# Altium schematic symbol library OltestLib.SchLib: 174 symbols (part 3 of 3)
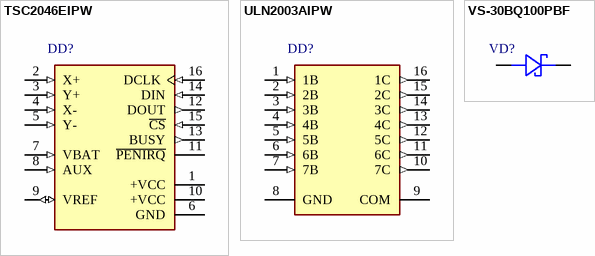
[diagram p10: symbols TSC2046EIPW to VS-30BQ100PBF]

## TSC2046EIPW
designator DD?
Touch Screen Controller with Serial Interface; Manufacturer: Texas Instruments; PartNumber: TSC2046EIPW
footprint PW0016A_M (SOP, 16-Leads, Body 5.1x4.5mm, Pitch 0.65mm, IPC Low Density)
pins: 1 +VCC (power) "Power Supply Input. The +VCC range for the AD7873 is from 2.2 V to 5.25 V. Both +VCC pins should be connected directly together.", 2 X+ (in) "X+ Position Input. ADC Input Channel 1.", 3 Y+ (in) "Y+ Position Input. ADC Input Channel 2.", 4 X- (in) "X- Position Input.", 5 Y- (in) "Y- Position Input. ADC Input Channel 3.", 6 GND (power) "Analog Ground. Ground reference point for all circuitry on the AD7873. All analog input signals and any external reference signals should be referred to this GND voltage.", 7 VBAT (in) "Battery Monitor Input. ADC Input Channel 4.", 8 AUX (in) "Auxiliary Input. ADC Input Channel 5.", 9 VREF (io) "Reference Output for the AD7873. Alternatively, an external reference can be applied to this input. The voltage range for the external reference is 1.0 V to +VCC. For specified performance, it is 2.5 V on the AD7873. The (See Datasheet)", 10 +VCC (power) "Power Supply Input. The +VCC range for the AD7873 is from 2.2 V to 5.25 V. Both +VCC pins should be connected directly together.", 11 ~{PENIRQ} (oc) "Pen Interrupt. CMOS logic open-drain output (requires 10 k ohm to 100 k ohm pull-up resistor externally).", 12 DOUT (out) "Data Out. Logic output. The conversion result from the AD7873 is provided on this output as a serial data stream. The bits are clocked out on the falling edge of the DCLK input. This output is high impedance when C\S\ is (See Datasheet)", 13 BUSY (out) "BUSY Output. Logic output. This output is high impedance when C\S\ is high.", 14 DIN (in) "Data In. Logic Input. Data to be written to the AD7873 control register is provided on this input and is clocked into the register on the rising edge of DCLK (see the Control Register section).", 15 ~{CS} (in) "Chip Select Input. Active low logic input. This input provides the dual function of initiating conversions on the AD7873 and enabling the serial input/output register.", 16 DCLK (in) "External Clock Input. Logic input. DCLK provides the serial clock for accessing data from the part. This clock input is also used as the clock source for the AD7873 conversion process."

## ULN2003AIPW
designator DD?
Darlington Transistor Arrays, 50V, 500mA; Manufacturer: Texas Instruments; PartNumber: ULN2003AIPW
footprint PW0016A_M (SOP, 16-Leads, Body 5.1x4.5mm, Pitch 0.65mm, IPC Low Density)
pins: 1 1B (in) "X+ Position Input. ADC Input Channel 1.", 2 2B (in) "X+ Position Input. ADC Input Channel 1.", 3 3B (in) "X+ Position Input. ADC Input Channel 1.", 4 4B (in) "X+ Position Input. ADC Input Channel 1.", 5 5B (in) "X+ Position Input. ADC Input Channel 1.", 6 6B (in) "X+ Position Input. ADC Input Channel 1.", 7 7B (in) "X+ Position Input. ADC Input Channel 1.", 8 GND (power) "Analog Ground. Ground reference point for all circuitry on the AD7873. All analog input signals and any external reference signals should be referred to this GND voltage.", 9 COM (power) "Analog Ground. Ground reference point for all circuitry on the AD7873. All analog input signals and any external reference signals should be referred to this GND voltage.", 10 7C (out) "X+ Position Input. ADC Input Channel 1.", 11 6C (out) "X+ Position Input. ADC Input Channel 1.", 12 5C (out) "X+ Position Input. ADC Input Channel 1.", 13 4C (out) "X+ Position Input. ADC Input Channel 1.", 14 3C (out) "X+ Position Input. ADC Input Channel 1.", 15 2C (out) "X+ Position Input. ADC Input Channel 1.", 16 1C (out) "X+ Position Input. ADC Input Channel 1."

## VS-30BQ100PBF
designator VD?  (value not drawn)
3A/100V Schottky Diode (SMC); Manufacturer: VISHAY; PartNumber: VS-30BQ100PBF
footprint SMC_VD_L8.1_W6.2 (Schottky Diode, 2-Leads, Body 8,13x6,52mm, IPC Low Density)
pins: 1 ANODE, 2 CATHODE